# Altium schematic symbol library SCH - DAC - LMK1C1103PWR.SCHLIB: 1 symbol
Pins are listed as number, name and electrical type; pins without a type are passive.

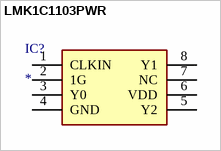
[diagram p0: symbol LMK1C1103PWR]

## LMK1C1103PWR
designator IC?
Integrated Circuit; Manufacturer_Name: Texas Instruments; Manufacturer_Part_Number: LMK1C1103PWR; Datasheet Link: https://www.ti.com/lit/ds/symlink/lmk1c1103.pdf?ts=1603742885821&ref_url=https%253A%252F%252Fwww.ti.com%252Fproduct%252FLMK1C1103; Height: 1.2mm; Mouser Part Number: 595-LMK1C1103PWR; Mouser Price/Stock: https://www.mouser.co.uk/ProductDetail/Texas-Instruments/LMK1C1103PWR?qs=rI7uf1IzohQWIx%2FERNzyRA%3D%3D; Arrow Part Number: LMK1C1103PWR; Arrow Price/Stock: https://www.arrow.com/en/products/lmk1c1103pwr/texas-instruments?region=nac
footprint SOP65P640X120-8N
pins: 1 CLKIN, 2 1G, 3 Y0, 4 GND, 5 Y2, 6 VDD, 7 NC, 8 Y1